# Altium schematic symbol library RES_SMD.Schlib: 1 symbol
Pins are listed as number, name and electrical type; pins without a type are passive.

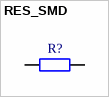
[diagram p0: symbol RES_SMD]

## RES_SMD
designator R?
pins: 1, 2